# Altium footprint library Shrink Small Outline (~0.6mm Pitch).PcbLib: 43 footprints (part 3 of 3)
Each footprint in its own frame and in the unit in brackets; x right, y up, seen from the top. Pads: shape width x height; smd on the part's side, far side on the other; paste and mask are expansions set on the pad; w line width, h text height; cw(c..) or ccw(c..) is an arc to the next point about the centre after c.
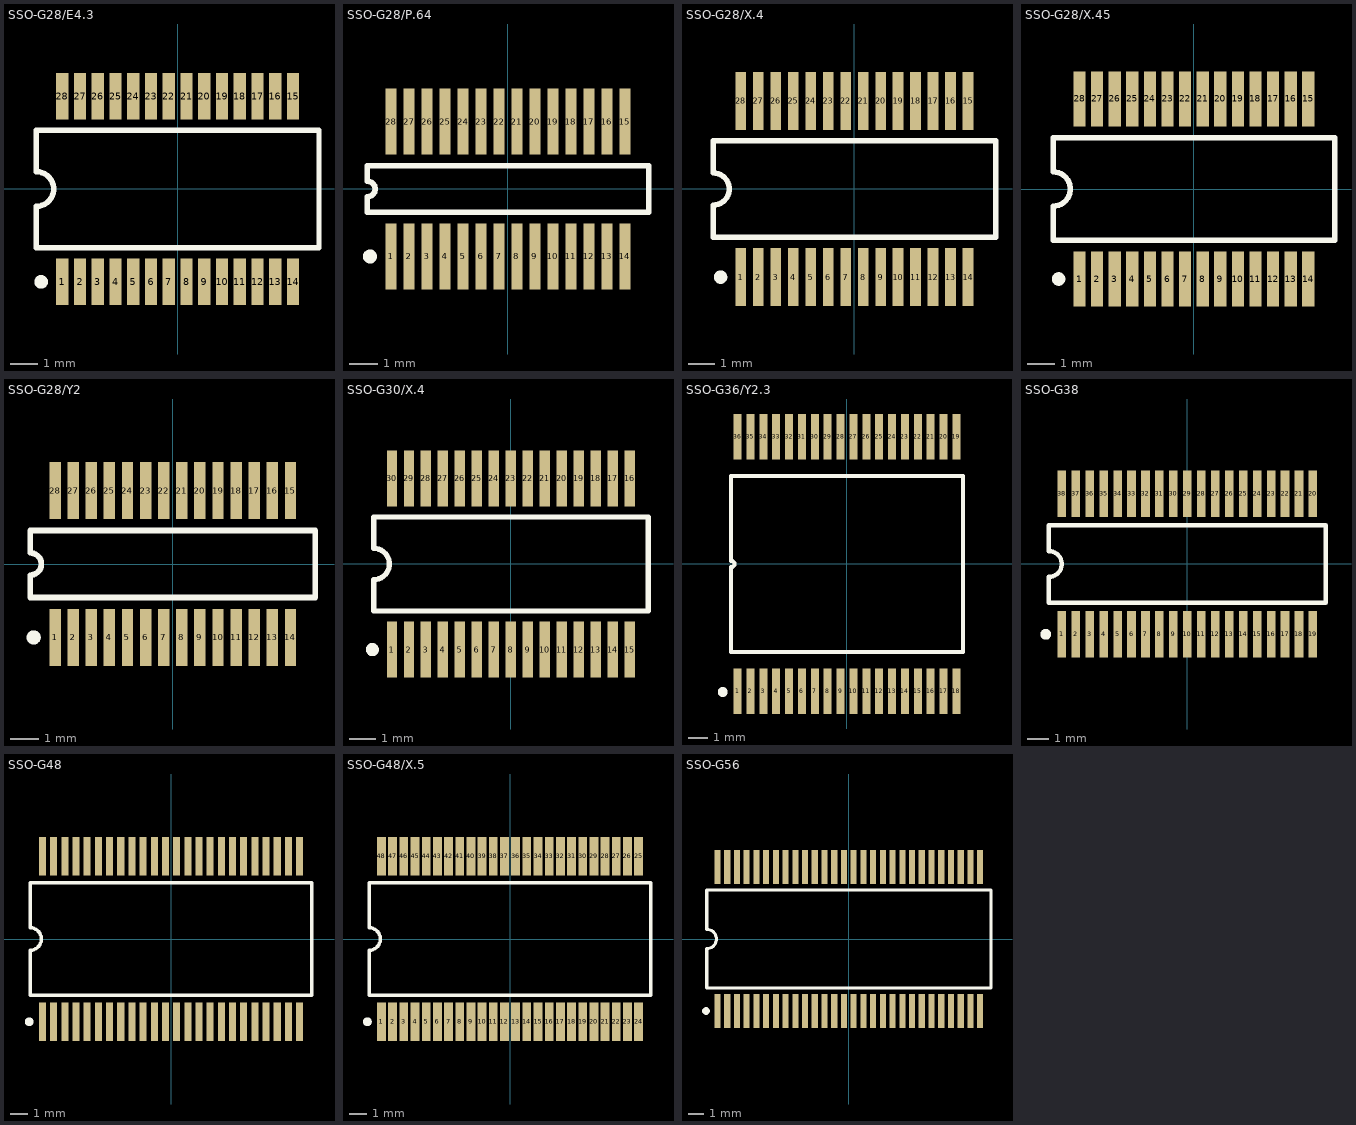
[diagram p2: the footprints below, top view; thin cyan lines are the x and y axes]

## SSO-G28/E4.3 [mm] "SSOP; 28 Leads; Body Width 5.3 mm; Pitch 0.65 mm"
height 1.98
pads (28):
  rect 0.45x1.7 smd: 1(-4.225,-3.4) 2(-3.575,-3.4) 3(-2.925,-3.4) 4(-2.275,-3.4) 5(-1.625,-3.4) 6(-0.975,-3.4) 7(-0.325,-3.4) 8(0.325,-3.4) 9(0.975,-3.4) 10(1.625,-3.4) 11(2.275,-3.4) 12(2.925,-3.4) 13(3.575,-3.4) 14(4.225,-3.4) 15(4.225,3.4) 16(3.575,3.4) 17(2.925,3.4) 18(2.275,3.4) 19(1.625,3.4) 20(0.975,3.4) 21(0.325,3.4) 22(-0.325,3.4) 23(-0.975,3.4) 24(-1.625,3.4) 25(-2.275,3.4) 26(-2.925,3.4) 27(-3.575,3.4) 28(-4.225,3.4)
Top Overlay:
  circle w0.25: c-5,-3.4 r0.125
  lines w0.2: -5.175,-2.15 -5.175,-0.635 ccw(c-5.175,0) -5.175,0.635 -5.175,2.15 5.175,2.15 5.175,-2.15 -5.175,-2.15

## SSO-G28/P.64 [mm] "SSOP; 28 Leads; Body Width 3.9 mm; Pitch 0.64 mm"
height 1.75
pads (28):
  rect 0.4x2.35 smd: 1(-4.16,-2.4) 2(-3.52,-2.4) 3(-2.88,-2.4) 4(-2.24,-2.4) 5(-1.6,-2.4) 6(-0.96,-2.4) 7(-0.32,-2.4) 8(0.32,-2.4) 9(0.96,-2.4) 10(1.6,-2.4) 11(2.24,-2.4) 12(2.88,-2.4) 13(3.52,-2.4) 14(4.16,-2.4) 15(4.16,2.4) 16(3.52,2.4) 17(2.88,2.4) 18(2.24,2.4) 19(1.6,2.4) 20(0.96,2.4) 21(0.32,2.4) 22(-0.32,2.4) 23(-0.96,2.4) 24(-1.6,2.4) 25(-2.24,2.4) 26(-2.88,2.4) 27(-3.52,2.4) 28(-4.16,2.4)
Top Overlay:
  circle w0.25: c-4.91,-2.4 r0.125
  lines w0.2: -5,-0.825 -5,-0.275 ccw(c-5,0) -5,0.275 -5,0.825 5,0.825 5,-0.825 -5,-0.825

## SSO-G28/X.4 [mm] "SSOP, Plastic; 28 Leads; Body Width 5.3 mm; Pitch 0.65 mm"
height 2
pads (28):
  rect 0.4x2.15 smd: 1(-4.225,-3.275) 2(-3.575,-3.275) 3(-2.925,-3.275) 4(-2.275,-3.275) 5(-1.625,-3.275) 6(-0.975,-3.275) 7(-0.325,-3.275) 8(0.325,-3.275) 9(0.975,-3.275) 10(1.625,-3.275) 11(2.275,-3.275) 12(2.925,-3.275) 13(3.575,-3.275) 14(4.225,-3.275) 15(4.225,3.275) 16(3.575,3.275) 17(2.925,3.275) 18(2.275,3.275) 19(1.625,3.275) 20(0.975,3.275) 21(0.325,3.275) 22(-0.325,3.275) 23(-0.975,3.275) 24(-1.625,3.275) 25(-2.275,3.275) 26(-2.925,3.275) 27(-3.575,3.275) 28(-4.225,3.275)
Top Overlay:
  circle w0.25: c-4.975,-3.275 r0.125
  lines w0.2: -5.25,-1.8 5.25,-1.8 5.25,1.8 -5.25,1.8 -5.25,0.6 cw(c-5.25,0) -5.25,-0.6 -5.25,-1.8

## SSO-G28/X.45 [mm] "SSOP; 28 Leads; Body Width 5.3 mm; Pitch 0.65 mm"
height 1.99
pads (28):
  rect 0.45x2.05 smd: 1(-4.225,-3.325) 2(-3.575,-3.325) 3(-2.925,-3.325) 4(-2.275,-3.325) 5(-1.625,-3.325) 6(-0.975,-3.325) 7(-0.325,-3.325) 8(0.325,-3.325) 9(0.975,-3.325) 10(1.625,-3.325) 11(2.275,-3.325) 12(2.925,-3.325) 13(3.575,-3.325) 14(4.225,-3.325) 15(4.225,3.325) 16(3.575,3.325) 17(2.925,3.325) 18(2.275,3.325) 19(1.625,3.325) 20(0.975,3.325) 21(0.325,3.325) 22(-0.325,3.325) 23(-0.975,3.325) 24(-1.625,3.325) 25(-2.275,3.325) 26(-2.925,3.325) 27(-3.575,3.325) 28(-4.225,3.325)
Top Overlay:
  circle w0.25: c-5,-3.325 r0.125
  lines w0.2: -5.2,-1.9 -5.2,-0.633 ccw(c-5.2,0) -5.2,0.633 -5.2,1.9 5.2,1.9 5.2,-1.9 -5.2,-1.9

## SSO-G28/Y2 [mm] "SSOP; 28 Leads; Body Width 3.9 mm; Pitch 0.635 mm"
height 1.73
pads (28):
  rect 0.4x2 smd: 1(-4.127,-2.575) 2(-3.492,-2.575) 3(-2.857,-2.575) 4(-2.222,-2.575) 5(-1.587,-2.575) 6(-0.953,-2.575) 7(-0.318,-2.575) 8(0.318,-2.575) 9(0.953,-2.575) 10(1.587,-2.575) 11(2.222,-2.575) 12(2.857,-2.575) 13(3.492,-2.575) 14(4.127,-2.575) 15(4.127,2.575) 16(3.492,2.575) 17(2.857,2.575) 18(2.222,2.575) 19(1.587,2.575) 20(0.953,2.575) 21(0.318,2.575) 22(-0.318,2.575) 23(-0.953,2.575) 24(-1.587,2.575) 25(-2.222,2.575) 26(-2.857,2.575) 27(-3.492,2.575) 28(-4.127,2.575)
Top Overlay:
  circle w0.25: c-4.878,-2.575 r0.125
  lines w0.2: -5,-1.175 -5,-0.392 ccw(c-5,0) -5,0.392 -5,1.175 5,1.175 5,-1.175 -5,-1.175

## SSO-G30/X.4 [mm] "SSOP, Plastic; 30 Leads; Body Width 5.3 mm; Pitch 0.65 mm"
height 2
pads (30):
  rect 0.4x2.15 smd: 1(-4.55,-3.275) 2(-3.9,-3.275) 3(-3.25,-3.275) 4(-2.6,-3.275) 5(-1.95,-3.275) 6(-1.3,-3.275) 7(-0.65,-3.275) 8(0,-3.275) 9(0.65,-3.275) 10(1.3,-3.275) 11(1.95,-3.275) 12(2.6,-3.275) 13(3.25,-3.275) 14(3.9,-3.275) 15(4.55,-3.275) 16(4.55,3.275) 17(3.9,3.275) 18(3.25,3.275) 19(2.6,3.275) 20(1.95,3.275) 21(1.3,3.275) 22(0.65,3.275) 23(0,3.275) 24(-0.65,3.275) 25(-1.3,3.275) 26(-1.95,3.275) 27(-2.6,3.275) 28(-3.25,3.275) 29(-3.9,3.275) 30(-4.55,3.275)
Top Overlay:
  circle w0.25: c-5.3,-3.275 r0.125
  lines w0.2: -5.25,-1.8 -5.25,-0.6 ccw(c-5.25,0) -5.25,0.6 -5.25,1.8 5.25,1.8 5.25,-1.8 -5.25,-1.8

## SSO-G36/Y2.3 [mm] "SSOP; 36 Leads; Body Width 11 mm; Pitch 0.65 mm"
height 3.6
pads (36):
  rect 0.4x2.3 smd: 1(-5.525,-6.425) 2(-4.875,-6.425) 3(-4.225,-6.425) 4(-3.575,-6.425) 5(-2.925,-6.425) 6(-2.275,-6.425) 7(-1.625,-6.425) 8(-0.975,-6.425) 9(-0.325,-6.425) 10(0.325,-6.425) 11(0.975,-6.425) 12(1.625,-6.425) 13(2.275,-6.425) 14(2.925,-6.425) 15(3.575,-6.425) 16(4.225,-6.425) 17(4.875,-6.425) 18(5.525,-6.425) 19(5.525,6.425) 20(4.875,6.425) 21(4.225,6.425) 22(3.575,6.425) 23(2.925,6.425) 24(2.275,6.425) 25(1.625,6.425) 26(0.975,6.425) 27(0.325,6.425) 28(-0.325,6.425) 29(-0.975,6.425) 30(-1.625,6.425) 31(-2.275,6.425) 32(-2.925,6.425) 33(-3.575,6.425) 34(-4.225,6.425) 35(-4.875,6.425) 36(-5.525,6.425)
Top Overlay:
  circle w0.25: c-6.275,-6.465 r0.125
  lines w0.2: -5.85,-4.44 5.85,-4.44 5.85,4.44 -5.85,4.44 -5.85,0.162 cw(c-5.85,0) -5.85,-0.162 -5.85,-4.44

## SSO-G38 [mm] "SSOP, Plastic; 38 Leads; Body Width 5.3 mm; Pitch 0.65 mm"
height 2
pads (38):
  rect 0.4x2.15 smd: 1(-5.85,-3.275) 2(-5.2,-3.275) 3(-4.55,-3.275) 4(-3.9,-3.275) 5(-3.25,-3.275) 6(-2.6,-3.275) 7(-1.95,-3.275) 8(-1.3,-3.275) 9(-0.65,-3.275) 10(0,-3.275) 11(0.65,-3.275) 12(1.3,-3.275) 13(1.95,-3.275) 14(2.6,-3.275) 15(3.25,-3.275) 16(3.9,-3.275) 17(4.55,-3.275) 18(5.2,-3.275) 19(5.85,-3.275) 20(5.85,3.275) 21(5.2,3.275) 22(4.55,3.275) 23(3.9,3.275) 24(3.25,3.275) 25(2.6,3.275) 26(1.95,3.275) 27(1.3,3.275) 28(0.65,3.275) 29(0,3.275) 30(-0.65,3.275) 31(-1.3,3.275) 32(-1.95,3.275) 33(-2.6,3.275) 34(-3.25,3.275) 35(-3.9,3.275) 36(-4.55,3.275) 37(-5.2,3.275) 38(-5.85,3.275)
Top Overlay:
  circle w0.25: c-6.6,-3.275 r0.125
  lines w0.2: -6.45,-1.8 6.45,-1.8 6.45,1.8 -6.45,1.8 -6.45,0.6 cw(c-6.45,0) -6.45,-0.6 -6.45,-1.8

## SSO-G48 [mm] "SSOP; 48 Leads; Body Width 7.5 mm; Pitch 0.635 mm"
height 2.79
pads (48):
  rect 0.4x2.2 smd: 1(-7.302,-4.7) 2(-6.667,-4.7) 3(-6.032,-4.7) 4(-5.397,-4.7) 5(-4.763,-4.7) 6(-4.127,-4.7) 7(-3.492,-4.7) 8(-2.857,-4.7) 9(-2.222,-4.7) 10(-1.587,-4.7) 11(-0.953,-4.7) 12(-0.318,-4.7) 13(0.318,-4.7) 14(0.953,-4.7) 15(1.587,-4.7) 16(2.222,-4.7) 17(2.857,-4.7) 18(3.492,-4.7) 19(4.127,-4.7) 20(4.763,-4.7) 21(5.397,-4.7) 22(6.032,-4.7) 23(6.667,-4.7) 24(7.302,-4.7) 25(7.302,4.7) 26(6.667,4.7) 27(6.032,4.7) 28(5.397,4.7) 29(4.763,4.7) 30(4.127,4.7) 31(3.492,4.7) 32(2.857,4.7) 33(2.222,4.7) 34(1.587,4.7) 35(0.953,4.7) 36(0.318,4.7) 37(-0.318,4.7) 38(-0.953,4.7) 39(-1.587,4.7) 40(-2.222,4.7) 41(-2.857,4.7) 42(-3.492,4.7) 43(-4.127,4.7) 44(-4.763,4.7) 45(-5.397,4.7) 46(-6.032,4.7) 47(-6.667,4.7) 48(-7.302,4.7)
Top Overlay:
  circle w0.25: c-8.053,-4.7 r0.125
  lines w0.2: -8,-3.2 8,-3.2 8,3.2 -8,3.2 -8,0.635 cw(c-8,0) -8,-0.635 -8,-3.2

## SSO-G48/X.5 [mm] "SSOP; 48 Leads; Body Width 7.5 mm; Pitch 0.635 mm"
height 2.74
pads (48):
  rect 0.5x2.2 smd: 1(-7.302,-4.7) 2(-6.667,-4.7) 3(-6.032,-4.7) 4(-5.397,-4.7) 5(-4.763,-4.7) 6(-4.127,-4.7) 7(-3.492,-4.7) 8(-2.857,-4.7) 9(-2.222,-4.7) 10(-1.587,-4.7) 11(-0.953,-4.7) 12(-0.318,-4.7) 13(0.318,-4.7) 14(0.953,-4.7) 15(1.587,-4.7) 16(2.222,-4.7) 17(2.857,-4.7) 18(3.492,-4.7) 19(4.127,-4.7) 20(4.763,-4.7) 21(5.397,-4.7) 22(6.032,-4.7) 23(6.667,-4.7) 24(7.302,-4.7) 25(7.302,4.7) 26(6.667,4.7) 27(6.032,4.7) 28(5.397,4.7) 29(4.763,4.7) 30(4.127,4.7) 31(3.492,4.7) 32(2.857,4.7) 33(2.222,4.7) 34(1.587,4.7) 35(0.953,4.7) 36(0.318,4.7) 37(-0.318,4.7) 38(-0.953,4.7) 39(-1.587,4.7) 40(-2.222,4.7) 41(-2.857,4.7) 42(-3.492,4.7) 43(-4.127,4.7) 44(-4.763,4.7) 45(-5.397,4.7) 46(-6.032,4.7) 47(-6.667,4.7) 48(-7.302,4.7)
Top Overlay:
  circle w0.25: c-8.103,-4.7 r0.125
  lines w0.2: -8,-3.2 -8,-0.635 ccw(c-8,0) -8,0.635 -8,3.2 8,3.2 8,-3.2 -8,-3.2

## SSO-G56 [mm] "SSOP; 56 Leads; Body Width 7.5 mm; Pitch 0.635 mm"
height 2.79
pads (56):
  rect 0.4x2.2 smd: 1(-8.572,-4.7) 2(-7.938,-4.7) 3(-7.302,-4.7) 4(-6.667,-4.7) 5(-6.032,-4.7) 6(-5.397,-4.7) 7(-4.763,-4.7) 8(-4.127,-4.7) 9(-3.492,-4.7) 10(-2.857,-4.7) 11(-2.222,-4.7) 12(-1.587,-4.7) 13(-0.953,-4.7) 14(-0.318,-4.7) 15(0.318,-4.7) 16(0.953,-4.7) 17(1.587,-4.7) 18(2.222,-4.7) 19(2.857,-4.7) 20(3.492,-4.7) 21(4.127,-4.7) 22(4.763,-4.7) 23(5.397,-4.7) 24(6.032,-4.7) 25(6.667,-4.7) 26(7.302,-4.7) 27(7.938,-4.7) 28(8.572,-4.7) 29(8.572,4.7) 30(7.938,4.7) 31(7.302,4.7) 32(6.667,4.7) 33(6.032,4.7) 34(5.397,4.7) 35(4.763,4.7) 36(4.127,4.7) 37(3.492,4.7) 38(2.857,4.7) 39(2.222,4.7) 40(1.587,4.7) 41(0.953,4.7) 42(0.318,4.7) 43(-0.318,4.7) 44(-0.953,4.7) 45(-1.587,4.7) 46(-2.222,4.7) 47(-2.857,4.7) 48(-3.492,4.7) 49(-4.127,4.7) 50(-4.763,4.7) 51(-5.397,4.7) 52(-6.032,4.7) 53(-6.667,4.7) 54(-7.302,4.7) 55(-7.938,4.7) 56(-8.572,4.7)
Top Overlay:
  circle w0.25: c-9.323,-4.7 r0.125
  lines w0.2: -9.275,-3.2 9.275,-3.2 9.275,3.2 -9.275,3.2 -9.275,0.635 cw(c-9.275,0) -9.275,-0.635 -9.275,-3.2